# Altium footprint library Fastnerers and Fixings.PcbLib: 8 footprints
Each footprint in its own frame and in the unit in brackets; x right, y up, seen from the top. Pads: shape width x height; smd on the part's side, far side on the other; paste and mask are expansions set on the pad; w line width, h text height; cw(c..) or ccw(c..) is an arc to the next point about the centre after c.

## DIPS762W50P254L1010H420Q08 [mm] "Dual-In-Line Package Socket; Lead Span 7.62mm, Lead Width 0.5mm, Pin Pitch 2.54mm, Body Length 10.10mm, Body Height 4.22mm, Pin Qty 8"
height 4.22
3D body "PRECI-DIP_110-87-308-41-001101.step": height 2.8, standoff -4.57, extent -5.05,-5.05 5.05,5.05

## DIPS762W50P254L1770H420Q14 [mm] "Dual-In-Line Package Socket; Lead Span 7.62mm, Lead Width 0.5mm, Pin Pitch 2.54mm, Body Length 17.70mm, Body Height 4.22mm, Pin Qty 14"
height 4.22
3D body "PRECI-DIP_110-87-314-41-001101.step": height 2.8, standoff -4.57, extent -5.05,-8.85 5.05,8.85

## DIPS762W50P254L2030H420Q16 [mm] "Dual-In-Line Package Socket; Lead Span 7.62mm, Lead Width 0.5mm, Pin Pitch 2.54mm, Body Length 20.30mm, Body Height 4.22mm, Pin Qty 16"
height 4.22
3D body "PRECI-DIP_110-87-316-41-001101.step": height 2.8, standoff -4.57, extent -5.05,-10.15 5.05,10.15

## DIPS762W50P254L2280H420Q18 [mm] "Dual-In-Line Package Socket; Lead Span 7.62mm, Lead Width 0.5mm, Pin Pitch 2.54mm, Body Length 22.80mm, Body Height 4.22mm, Pin Qty 18"
height 4.22
3D body "PRECI-DIP_110-87-318-41-001101.step": height 2.8, standoff -4.57, extent -5.05,-11.4 5.05,11.4

## DIPS762W52P254L1905H533Q14 [mm] "Dual-In-Line Package Socket; Lead Span 7.62mm, Lead Width 0.52mm, Pin Pitch 2.54mm, Body Length 19.05mm, Body Height 5.33mm, Pin Qty 14"
height 5.33
3D body "DIP14-Socket.step": height 4.05, standoff -3.32, extent -5.029,-8.839 5.029,8.839

## DIPS762W52P254L1930H500Q16 [mm] "Dual-In-Line Package Socket; Lead Span 7.62mm, Lead Width 0.52mm, Pin Pitch 2.54mm, Body Length 19.30mm, Body Height 5.00mm, Pin Qty 16"
height 5
3D body "DIP16-Socket.step": height 4.05, standoff -3.32, extent -5.029,-10.109 5.029,10.109

## DIPS762W52P254L2270H500Q18 [mm] "Dual-In-Line Package Socket; Lead Span 7.62mm, Lead Width 0.52mm, Pin Pitch 2.54mm, Body Length 22.70mm, Body Height 5.00mm, Pin Qty 18"
height 5
3D body "DIP18-Socket.step": height 4.05, standoff -3.32, extent -5.029,-11.379 5.029,11.379

## LED_SPACER_ESSENTRA_LEDS2M-500-01 [mm] "T1 3/4 LED Standoff Natural Nylon 0.500\" (12.70mm)"
height 13.208
3D body "ESSENTRA_LEDS2M-500-01.step": height 13.21, standoff 0, extent -2.54,-2.54 2.54,2.54